# Altium footprint library EVQPNF05M.PcbLib: 1 footprints
Each footprint in its own frame and in the unit in brackets; x right, y up, seen from the top. Pads: shape width x height; smd on the part's side, far side on the other; paste and mask are expansions set on the pad; w line width, h text height; cw(c..) or ccw(c..) is an arc to the next point about the centre after c.
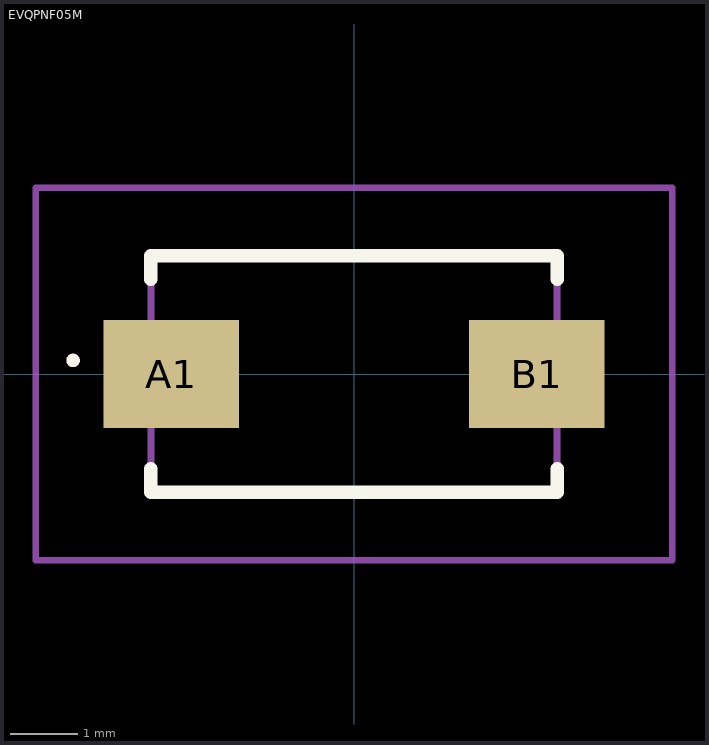
[diagram p0: the footprint, top view; thin cyan lines are the x and y axes]

## EVQPNF05M [mm]
pads (2):
  rect 2x1.6 smd: A1(-2.7,0) B1(2.7,0)
Top Overlay:
  lines w0.1: -4.2,0.2 -4.2,0.2 ; -4.2,0.2 ccw(c-4.15,0.2) -4.1,0.2 ; -4.2,0.2 cw(c-4.15,0.2) -4.1,0.2 ; -4.1,0.2 -4.1,0.2
  lines w0.2: -3,-1.4 -3,-1.75 3,-1.75 3,-1.4 ; -3,1.4 -3,1.75 3,1.75 3,1.4
Mechanical 15:
  lines w0.1: -3,-1.75 3,-1.75 3,1.75 -3,1.75 -3,-1.75
Mechanical 20:
  lines w0.1: -4.7,-2.75 4.7,-2.75 4.7,2.75 -4.7,2.75 -4.7,-2.75